# EAGLE library part DRV8955PRGER (library DRV8955PRGER)
Quad Half Bridge Motor Driver 24-Pin VQFN EP T/R Source: Datasheet <https://www.ti.com/lit/ds/symlink/drv8955.pdf?ts=1623934914436&ref_url=https%3A%2F%2Fwww.ti.com%2Fstore%2Fti%2Fen%2Fp%2Fproduct%2F%3Fp%3DDRV8955PRGER>
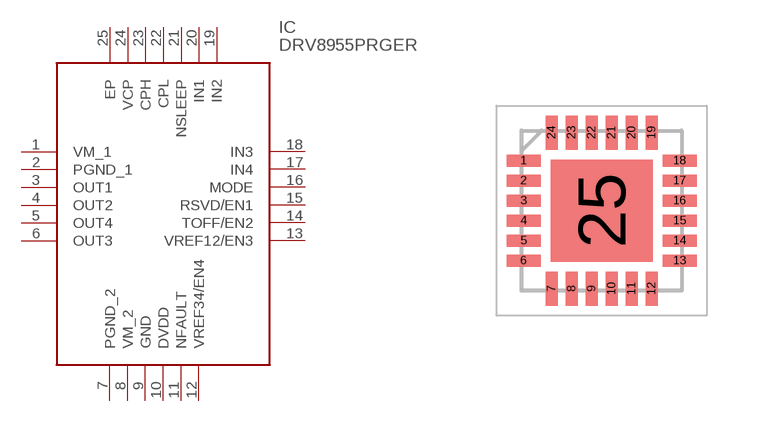
[diagram p0: symbol with the pads of QFN50P400X400X100-25N; footprint QFN50P400X400X100-25N]

Designator prefix IC

## DRV8955PRGER (Description: Quad Half Bridge Motor Driver 24-Pin VQFN EP T/R; Height: 1mm; Manufacturer_Name: Texas Instruments; Manufacturer_Part_Number: DRV8955PRGER)  [QFN50P400X400X100-25N]
1  VM_1
2  PGND_1
3  OUT1
4  OUT2
5  OUT4
6  OUT3
7  PGND_2
8  VM_2
9  GND
10  DVDD
11  NFAULT
12  VREF34/EN4
13  VREF12/EN3
14  TOFF/EN2
15  RSVD/EN1
16  MODE
17  IN4
18  IN3
19  IN2
20  IN1
21  NSLEEP
22  CPL
23  CPH
24  VCP
25  EP

## Footprint QFN50P400X400X100-25N (pad centres in mm)
RGE0024B/
smd 0.85 x 0.3: 1 -1.95,1.25; 2 -1.95,0.75; 3 -1.95,0.25; 4 -1.95,-0.25; 5 -1.95,-0.75; 6 -1.95,-1.25; 13 1.95,-1.25; 14 1.95,-0.75; 15 1.95,-0.25; 16 1.95,0.25; 17 1.95,0.75; 18 1.95,1.25
smd 0.3 x 0.85: 7 -1.25,-1.95; 8 -0.75,-1.95; 9 -0.25,-1.95; 10 0.25,-1.95; 11 0.75,-1.95; 12 1.25,-1.95; 19 1.25,1.95; 20 0.75,1.95; 21 0.25,1.95; 22 -0.25,1.95; 23 -0.75,1.95; 24 -1.25,1.95
smd 2.55 x 2.55: 25 0,0